# Altium footprint library RoboCor.PcbLib: 14 footprints
Each footprint in its own frame and in the unit in brackets; x right, y up, seen from the top. Pads: shape width x height; smd on the part's side, far side on the other; paste and mask are expansions set on the pad; w line width, h text height; cw(c..) or ccw(c..) is an arc to the next point about the centre after c.
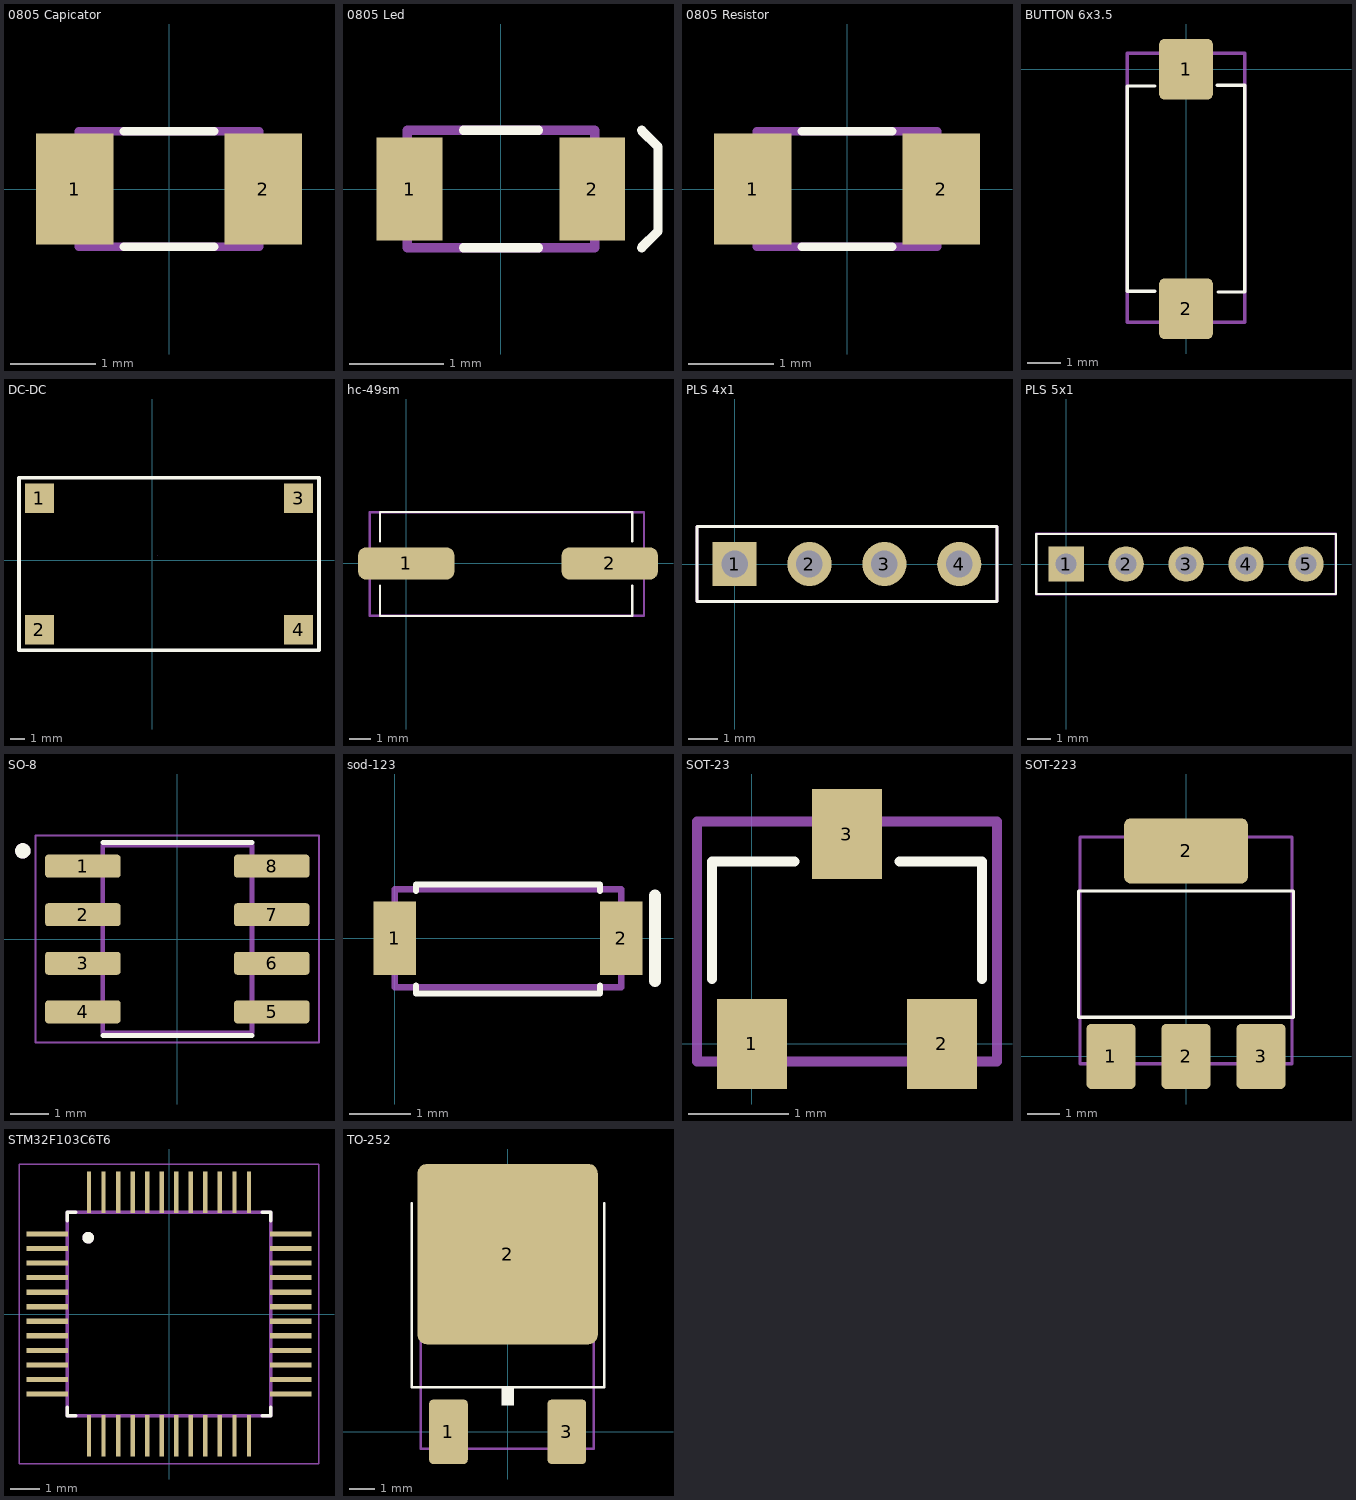
[diagram p0: the footprints below, top view; thin cyan lines are the x and y axes]

## 0805 Capicator [mm]
pads (2):
  rect 0.9x1.3 smd: 1(-1.1,0) 2(1.1,0)
Top Overlay:
  lines w0.1: -0.525,-0.675 0.525,-0.675 ; -0.525,0.675 0.525,0.675
Mechanical 13:
  lines w0.1: -1.05,-0.675 1.05,-0.675 1.05,0.675 -1.05,0.675 -1.05,-0.675
3D body "CAPC-0805-T0.75-BN.stp": height 0.75, standoff 0, extent -1.05,-0.675 1.05,0.675

## 0805 Led [mm]
pads (2):
  rect 0.7x1.1 smd: 1(-0.975,0) 2(0.975,0)
Top Overlay:
  lines w0.1: -0.4,-0.625 0.4,-0.625 ; -0.4,0.625 0.4,0.625 ; 1.5,-0.625 1.675,-0.45 1.675,0.45 1.5,0.625
Mechanical 13:
  lines w0.1: -1,-0.625 -1,0.625 1,0.625 1,-0.625 -1,-0.625
3D body "LED0805.step": height 1.1, standoff 0, extent -1.01,-0.625 1.01,0.625

## 0805 Resistor [mm]
pads (2):
  rect 0.9x1.3 smd: 1(-1.1,0) 2(1.1,0)
Top Overlay:
  lines w0.1: -0.525,-0.675 0.525,-0.675 ; -0.525,0.675 0.525,0.675
Mechanical 13:
  lines w0.1: -1.05,-0.675 -1.05,0.675 1.05,0.675 1.05,-0.675 -1.05,-0.675
3D body "RESC-0805.stp": height 0.6, standoff 0, extent -1.05,-0.675 1.05,0.675

## BUTTON 6x3.5 [mm]
pads (2):
  rrect20% 1.6x1.8 smd: 1(0,0) 2(0,-7.125)
Top Overlay:
  lines w0.1: -0.925,-6.6 -1.75,-6.6 -1.75,-0.5 -0.925,-0.5 ; 0.925,-0.475 1.75,-0.475 1.75,-6.625 0.95,-6.625
Mechanical 13:
  lines w0.1: -1.75,-7.525 -1.75,0.475 -1.675,0.475 1.75,0.475 1.75,-7.525 -1.75,-7.525
3D body "Tactile_Switch_SMD.step": height 4.3, standoff 0, extent -1.75,-7.525 1.75,0.475

## DC-DC [mm]
pads (4):
  rect 2x2 smd: 1(-7.747,4.255) 2(-7.747,-4.763) 3(10.033,4.255) 4(10.033,-4.763)
Top Overlay:
  lines w0.254: -9.144,-6.159 -9.144,5.651 11.43,5.651 11.43,-6.159 -9.144,-6.159
Mechanical 15:
  lines w0.003: 0.381,0.317 0.381,0.318

## hc-49sm [mm]
pads (2):
  rrect50% 4.5x1.5 smd: 1(0,0) 2(9.5,0)
Top Overlay:
  lines w0.1: -1.225,-1.025 -1.225,-2.45 10.55,-2.45 10.55,-1.025 ; -1.225,1.025 -1.225,2.4 10.55,2.4 10.55,1.025
Mechanical 13:
  lines w0.1: -1.7,-2.44 11.1,-2.44 11.1,2.39 -1.7,2.39 -1.7,-2.44
3D body "User Library-Crystal HC49_US-SM.step": height -0.38, standoff -4.68, extent -1.7,-2.44 11.1,2.39

## PLS 4x1 [mm] "Connector; Header; 5 Position"
pads (4):
  rect 1.5x1.5 hole 0.9: 1(0,0)
  round 1.5 hole 0.9: 2(2.54,0) 3(5.08,0) 4(7.62,0)
Top Overlay:
  lines w0.1: -1.27,-1.27 8.9,-1.27 8.9,1.27 -1.27,1.27 -1.27,-1.27
Mechanical 13:
  lines w0.1: -1.275,-1.275 -1.275,1.275 8.9,1.275 8.9,-1.275 -1.275,-1.275
3D body "PLS.stp": height 8.6, standoff -3, extent -1.27,-1.295 8.89,1.245

## PLS 5x1 [mm] "Connector; Header; 5 Position"
pads (5):
  rect 1.5x1.5 hole 0.9: 1(0,0)
  round 1.5 hole 0.9: 2(2.54,0) 3(5.08,0) 4(7.62,0) 5(10.16,0)
Top Overlay:
  lines w0.1: -1.27,-1.27 11.43,-1.27 11.43,1.27 -1.27,1.27 -1.27,-1.27
Mechanical 13:
  lines w0.1: -1.275,-1.275 -1.275,1.275 11.425,1.275 11.425,-1.275 -1.275,-1.275
3D body "User Library-PLS-5.step": height 8.54, standoff -3, extent -1.275,-1.275 11.425,1.265

## SO-8 [mm]
pads (8):
  rrect25% 1.97x0.6 smd: 1(-2.47,1.905) 2(-2.47,0.635) 3(-2.47,-0.635) 4(-2.47,-1.905) 5(2.47,-1.905) 6(2.47,-0.635) 7(2.47,0.635) 8(2.47,1.905)
Top Overlay:
  circle w0.2: c-4.04,2.305 r0.1
  lines w0.127: -1.95,-2.525 1.95,-2.525 ; -1.95,2.525 1.95,2.525
Mechanical 13:
  circle w0.2: c-4.04,2.305 r0.1
  lines w0.127: -1.95,-2.452 -1.95,2.452 1.95,2.452 1.95,-2.452 -1.95,-2.452
Mechanical 15:
  lines w0.05: -3.705,-2.702 -3.705,2.702 3.705,2.702 3.705,-2.702 -3.705,-2.702
3D body "step_temp.STEP": height 1.75, standoff 0, extent -2.997,-2.451 2.997,2.451

## sod-123 [mm]
pads (2):
  rect 0.7x1.2 smd: 1(0,0) 2(3.7,0)
Top Overlay:
  lines w0.1: 0.35,-0.775 0.35,-0.9 3.35,-0.9 3.35,-0.775 ; 0.35,0.775 0.35,0.875 3.35,0.875 3.35,0.775
  lines w0.2: 4.25,-0.7 4.25,0.7
Mechanical 13:
  lines w0.1: 0,-0.8 3.7,-0.8 3.7,0.8 0,0.8 0,-0.8
3D body "CircuitWorks-SOD123.step": height -0.42, standoff -1.69, extent 0,-0.8 3.7,0.8

## SOT-23 [mm]
pads (3):
  rect 0.7x0.9 smd: 1(0,0) 2(1.9,0) 3(0.95,2.1)
Top Overlay:
  lines w0.1: -0.4,0.65 -0.4,1.825 0.425,1.825 ; 1.475,1.825 2.3,1.825 2.3,0.65
Mechanical 13:
  lines w0.1: -0.55,-0.175 2.45,-0.175 2.45,2.225 -0.55,2.225 -0.55,-0.175
3D body "sot23 v2.step": height 1.1, standoff 0, extent -0.55,-0.175 2.45,2.225

## SOT-223 [mm]
pads (4):
  rrect20% 1.5x2 smd: 1(-2.3,0) 2(0,0) 3(2.3,0)
  rrect20% 3.8x2 smd: 2(0,6.3)
Top Overlay:
  lines w0.1: -3.3,1.2 3.3,1.2 3.3,5.075 -3.3,5.075 -3.3,1.2
Mechanical 13:
  lines w0.1: -3.25,-0.225 3.25,-0.225 3.25,6.73 -3.25,6.73 -3.25,-0.225
3D body "SOT-223.step": height 1.7, standoff 0.02, extent -3.25,-0.23 3.25,6.73

## STM32F103C6T6 [mm]
pads (48):
  rrect25% 1.44x0.18 smd: 1(-4.185,2.75) 2(-4.185,2.25) 3(-4.185,1.75) 4(-4.185,1.25) 5(-4.185,0.75) 6(-4.185,0.25) 7(-4.185,-0.25) 8(-4.185,-0.75) 9(-4.185,-1.25) 10(-4.185,-1.75) 11(-4.185,-2.25) 12(-4.185,-2.75) 25(4.185,-2.75) 26(4.185,-2.25) 27(4.185,-1.75) 28(4.185,-1.25) 29(4.185,-0.75) 30(4.185,-0.25) 31(4.185,0.25) 32(4.185,0.75) 33(4.185,1.25) 34(4.185,1.75) 35(4.185,2.25) 36(4.185,2.75)
  rrect25% 0.15x1.44 smd: 13(-2.75,-4.185) 14(-2.25,-4.185) 15(-1.75,-4.185) 16(-1.25,-4.185) 17(-0.75,-4.185) 18(-0.25,-4.185) 19(0.25,-4.185) 20(0.75,-4.185) 21(1.25,-4.185) 22(1.75,-4.185) 23(2.25,-4.185) 24(2.75,-4.185) 37(2.75,4.185) 38(2.25,4.185) 39(1.75,4.185) 40(1.25,4.185) 41(0.75,4.185) 42(0.25,4.185) 43(-0.25,4.185) 44(-0.75,4.185) 45(-1.25,4.185) 46(-1.75,4.185) 47(-2.25,4.185) 48(-2.75,4.185)
Top Overlay:
  circle w0.2: c-2.777,2.623 r0.1
  lines w0.127: -3.5,-3.21 -3.5,-3.5 -3.21,-3.5 ; -3.5,3.21 -3.5,3.5 -3.21,3.5 ; 3.21,-3.5 3.5,-3.5 3.5,-3.21 ; 3.21,3.5 3.5,3.5 3.5,3.21
Mechanical 13:
  circle w0.2: c-2.777,2.623 r0.1
  lines w0.127: -3.5,-3.5 -3.5,3.5 3.5,3.5 3.5,-3.5 -3.5,-3.5
Mechanical 15:
  lines w0.05: -5.155,-5.155 -5.155,5.155 5.155,5.155 5.155,-5.155 -5.155,-5.155
3D body "step_temp.STEP": height 0.72, standoff -0.88, extent -4.5,-4.5 4.5,4.5

## TO-252 [mm]
pads (3):
  rrect20% 1.5x2.5 smd: 1(-2.3,0) 3(2.3,0)
  rrect10% 7x7 smd: 2(0,6.9)
Top Overlay:
  rectangle: -0.238,1.025 0.238,1.75
  lines w0.1: -3.725,8.875 -3.725,1.725 3.75,1.725 3.75,8.875
Mechanical 13:
  lines w0.1: -3.384,-0.65 -3.384,9.45 3.35,9.45 3.35,-0.65 -3.384,-0.65
3D body "User Library-DPAK_TO-252AA.step": height 2.37, standoff -0.03, extent -3.384,-0.65 3.35,9.45